# Altium schematic symbol library Motors Brushless.SchLib: 2 symbols
Pins are listed as number, name and electrical type; pins without a type are passive.

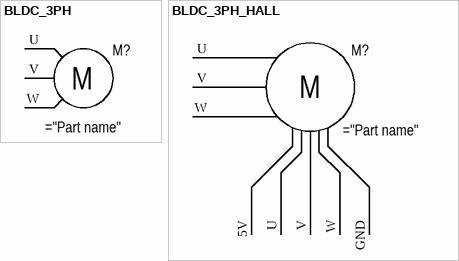
[diagram p0: symbols BLDC_3PH to BLDC_3PH_HALL]

## BLDC_3PH
designator M?
pins: U, V, W
text: M

## BLDC_3PH_HALL
designator M?
pins: 5V, GND, U, U, V, V, W, W
text: M